# EAGLE library part MCP23017T-E/SS (library Kirbi_ControlBoard)
16 pin I2C IO Expander https://www.mouser.com/datasheet/2/268/20001952C-1129816.pdf
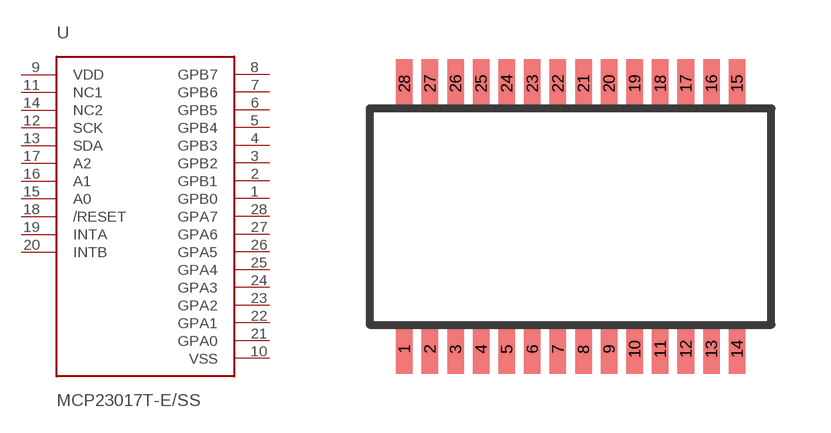
[diagram p3: symbol with the pads of MCP23017; footprint MCP23017]

Designator prefix U

## MCP23017T-E/SS  [MCP23017]
1  GPB0  pas
2  GPB1  pas
3  GPB2  pas
4  GPB3  pas
5  GPB4  pas
6  GPB5  pas
7  GPB6  pas
8  GPB7  pas
9  VDD  pas
10  VSS  pas
11  NC1  pas
12  SCK  pas
13  SDA  pas
14  NC2  pas
15  A0  pas
16  A1  pas
17  A2  pas
18  /RESET  pas
19  INTA  pas
20  INTB  pas
21  GPA0  pas
22  GPA1  pas
23  GPA2  pas
24  GPA3  pas
25  GPA4  pas
26  GPA5  pas
27  GPA6  pas
28  GPA7  pas

## Footprint MCP23017 (pad centres in mm)
https://www.mouser.com/datasheet/2/268/20001952C-1129816.pdf
smd 0.42 x 1.25: 1 -4.225,-3.375; 2 -3.575,-3.375; 3 -2.925,-3.375; 4 -2.275,-3.375; 5 -1.625,-3.375; 6 -0.975,-3.375; 7 -0.325,-3.375; 8 0.325,-3.375; 9 0.975,-3.375; 10 1.625,-3.375; 11 2.275,-3.375; 12 2.925,-3.375; 13 3.575,-3.375; 14 4.225,-3.375; 15 4.225,3.375; 16 3.575,3.375; 17 2.925,3.375; 18 2.275,3.375; 19 1.625,3.375; 20 0.975,3.375; 21 0.325,3.375; 22 -0.325,3.375; 23 -0.975,3.375; 24 -1.625,3.375; 25 -2.275,3.375; 26 -2.925,3.375; 27 -3.575,3.375; 28 -4.225,3.375